# Altium footprint library Barrier-Terminal-Block.PcbLib: 7 footprints
Each footprint in its own frame and in the unit in brackets; x right, y up, seen from the top. Pads: shape width x height; smd on the part's side, far side on the other; paste and mask are expansions set on the pad; w line width, h text height; cw(c..) or ccw(c..) is an arc to the next point about the centre after c.
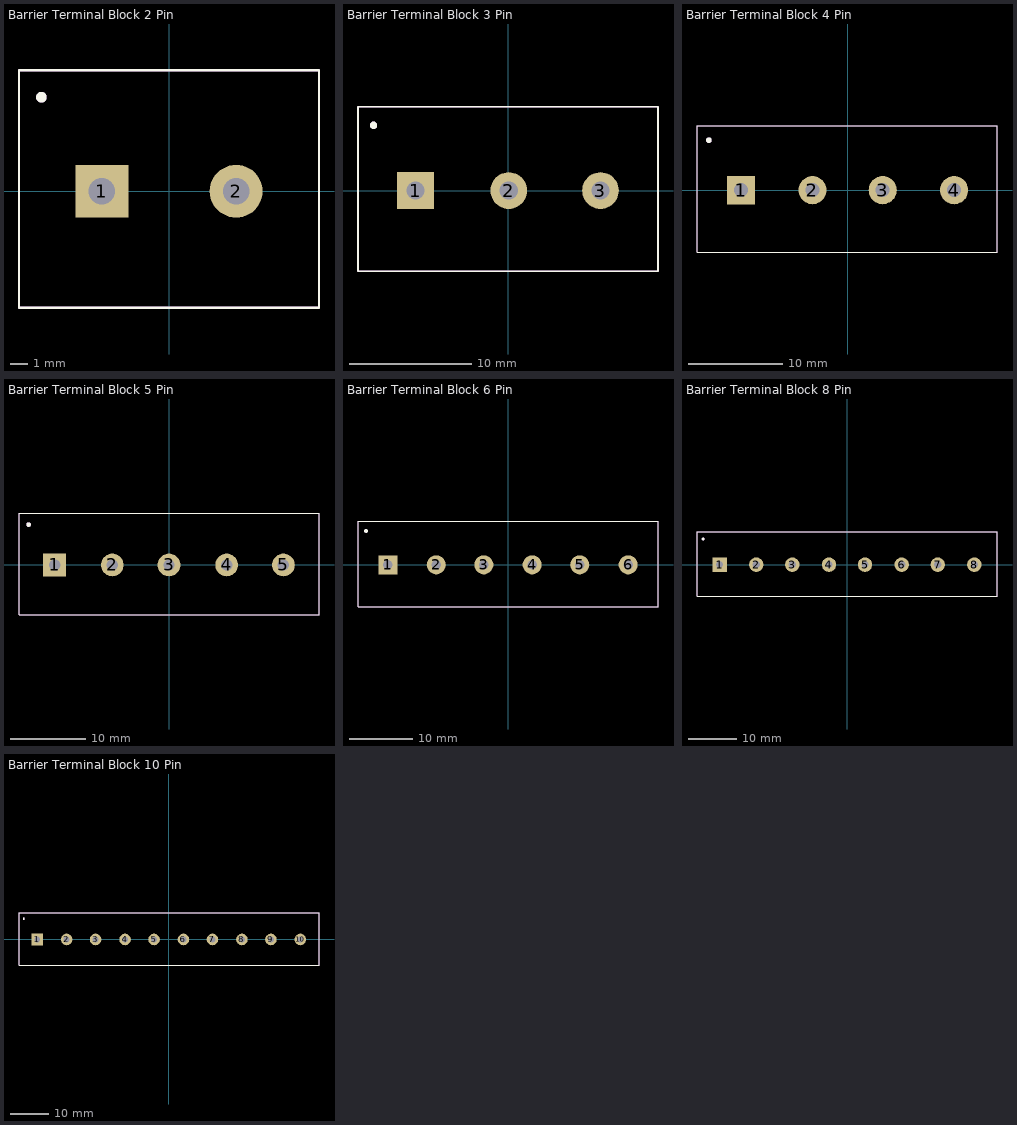
[diagram p0: the footprints below, top view; thin cyan lines are the x and y axes]

## Barrier Terminal Block 2 Pin [mm]
pads (2):
  rect 3x3 hole 1.5: 1(-3.81,0)
  round 3 hole 1.5: 2(3.81,0)
Top Overlay:
  circle w0.3: c-7.239,5.334 r0.15
  lines w0.127: -8.509,-6.604 8.509,-6.604 8.509,6.858 -8.509,6.858 -8.509,-6.604
Mechanical 13:
  circle w0.3: c-7.239,5.334 r0.15
  lines w0.127: -8.509,-6.604 8.509,-6.604 8.509,6.858 -8.509,6.858 -8.509,-6.604
3D body "Barrier Terminal Block 2 Pin.STEP": height 14.8, standoff -4.79, extent -8.37,-6.484 8.37,6.75

## Barrier Terminal Block 3 Pin [mm]
pads (3):
  rect 3x3 hole 1.5: 1(-7.556,0)
  round 3 hole 1.5: 2(0.064,0) 3(7.556,0)
Top Overlay:
  circle w0.3: c-10.986,5.334 r0.15
  lines w0.127: -12.255,-6.604 12.255,-6.604 12.255,6.858 -12.255,6.858 -12.255,-6.604
Mechanical 13:
  circle w0.3: c-10.986,5.334 r0.15
  lines w0.127: -12.255,-6.604 12.255,-6.604 12.255,6.858 -12.255,6.858 -12.255,-6.604
3D body "Barrier Terminal Block 2 Pin.STEP": height 14.8, standoff -4.79, extent -12.117,-6.484 4.623,6.75
3D body "Barrier Terminal Block 2 Pin.STEP": height 14.8, standoff -4.79, extent -4.623,-6.484 12.117,6.75

## Barrier Terminal Block 4 Pin [mm]
pads (4):
  rect 3x3 hole 1.5: 1(-11.367,0)
  round 3 hole 1.5: 2(-3.746,0) 3(3.746,0) 4(11.367,0)
Top Overlay:
  circle w0.3: c-14.795,5.334 r0.15
  lines w0.127: -16.066,-6.604 -16.066,6.858 15.938,6.858 15.938,-6.604 -16.066,-6.604
Mechanical 13:
  circle w0.3: c-14.795,5.334 r0.15
  lines w0.127: -16.066,-6.604 -16.066,6.858 15.938,6.858 15.938,-6.604 -16.066,-6.604
3D body "Barrier Terminal Block 2 Pin.STEP": height 14.8, standoff -4.79, extent -15.927,-6.484 0.813,6.75
3D body "Barrier Terminal Block 2 Pin.STEP": height 14.8, standoff -4.79, extent -0.813,-6.484 15.927,6.75

## Barrier Terminal Block 5 Pin [mm]
pads (5):
  rect 3x3 hole 1.5: 1(-15.113,0)
  round 3 hole 1.5: 2(-7.493,0) 3(0,0) 4(7.62,0) 5(15.113,0)
Top Overlay:
  circle w0.3: c-18.542,5.334 r0.15
  lines w0.127: -19.812,-6.604 19.812,-6.604 19.812,6.858 -19.812,6.858 -19.812,-6.604
Mechanical 13:
  circle w0.3: c-18.542,5.334 r0.15
  lines w0.127: -19.812,-6.604 19.812,-6.604 19.812,6.858 -19.812,6.858 -19.812,-6.604
3D body "Barrier Terminal Block 2 Pin.STEP": height 14.8, standoff -4.79, extent -19.673,-6.484 -2.933,6.75
3D body "Barrier Terminal Block 2 Pin.STEP": height 14.8, standoff -4.79, extent -12.18,-6.484 4.56,6.75
3D body "Barrier Terminal Block 2 Pin.STEP": height 14.8, standoff -4.79, extent 2.933,-6.484 19.673,6.75

## Barrier Terminal Block 6 Pin [mm]
pads (6):
  rect 3x3 hole 1.5: 1(-18.923,0)
  round 3 hole 1.5: 2(-11.303,0) 3(-3.81,0) 4(3.81,0) 5(11.303,0) 6(18.923,0)
Top Overlay:
  circle w0.3: c-22.352,5.334 r0.15
  lines w0.127: -23.622,-6.604 -23.622,6.858 23.622,6.858 23.622,-6.604 -23.622,-6.604
Mechanical 13:
  circle w0.3: c-22.352,5.334 r0.15
  lines w0.127: -23.622,-6.604 -23.622,6.858 23.622,6.858 23.622,-6.604 -23.622,-6.604
3D body "Barrier Terminal Block 2 Pin.STEP": height 14.8, standoff -4.79, extent 6.743,-6.376 23.483,6.858
3D body "Barrier Terminal Block 2 Pin.STEP": height 14.8, standoff -4.79, extent -8.37,-6.484 8.37,6.75
3D body "Barrier Terminal Block 2 Pin.STEP": height 14.8, standoff -4.79, extent -23.483,-6.484 -6.743,6.75

## Barrier Terminal Block 8 Pin [mm]
pads (8):
  rect 3x3 hole 1.5: 1(-26.479,0)
  round 3 hole 1.5: 2(-18.86,0) 3(-11.367,0) 4(-3.746,0) 5(3.746,0) 6(11.367,0) 7(18.86,0) 8(26.479,0)
Top Overlay:
  circle w0.3: c-29.909,5.334 r0.15
  lines w0.127: -31.178,-6.604 -31.178,6.858 31.178,6.858 31.178,-6.604 -31.178,-6.604
Mechanical 13:
  circle w0.3: c-29.909,5.334 r0.15
  lines w0.127: -31.178,-6.604 -31.178,6.858 31.178,6.858 31.178,-6.604 -31.178,-6.604
3D body "Barrier Terminal Block 2 Pin.STEP": height 14.8, standoff -4.79, extent -31.04,-6.484 -14.3,6.75
3D body "Barrier Terminal Block 2 Pin.STEP": height 14.8, standoff -4.79, extent -15.926,-6.484 0.814,6.75
3D body "Barrier Terminal Block 2 Pin.STEP": height 14.8, standoff -4.79, extent -0.813,-6.376 15.927,6.858
3D body "Barrier Terminal Block 2 Pin.STEP": height 14.8, standoff -4.79, extent 14.3,-6.376 31.04,6.858

## Barrier Terminal Block 10 Pin [mm]
pads (10):
  rect 3x3 hole 1.5: 1(-34.036,0)
  round 3 hole 1.5: 2(-26.416,0) 3(-18.923,0) 4(-11.303,0) 5(-3.81,0) 6(3.81,0) 7(11.303,0) 8(18.923,0) 9(26.416,0) 10(34.036,0)
Top Overlay:
  circle w0.3: c-37.465,5.334 r0.15
  lines w0.127: -38.735,-6.604 38.862,-6.604 38.862,6.858 -38.735,6.858 -38.735,-6.604
Mechanical 13:
  circle w0.3: c-37.465,5.334 r0.15
  lines w0.127: -38.735,-6.604 38.862,-6.604 38.862,6.858 -38.735,6.858 -38.735,-6.604
3D body "Barrier Terminal Block 2 Pin.STEP": height 14.8, standoff -4.79, extent -38.596,-6.484 -21.856,6.75
3D body "Barrier Terminal Block 2 Pin.STEP": height 14.8, standoff -4.79, extent -23.483,-6.484 -6.743,6.75
3D body "Barrier Terminal Block 2 Pin.STEP": height 14.8, standoff -4.79, extent -8.37,-6.376 8.37,6.858
3D body "Barrier Terminal Block 2 Pin.STEP": height 14.8, standoff -4.79, extent 6.743,-6.376 23.483,6.858
3D body "Barrier Terminal Block 2 Pin.STEP": height 14.8, standoff -4.79, extent 21.856,-6.376 38.596,6.858